# Altium footprint library 39303032.PcbLib: 1 footprints
Each footprint in its own frame and in the unit in brackets; x right, y up, seen from the top. Pads: shape width x height; smd on the part's side, far side on the other; paste and mask are expansions set on the pad; w line width, h text height; cw(c..) or ccw(c..) is an arc to the next point about the centre after c.
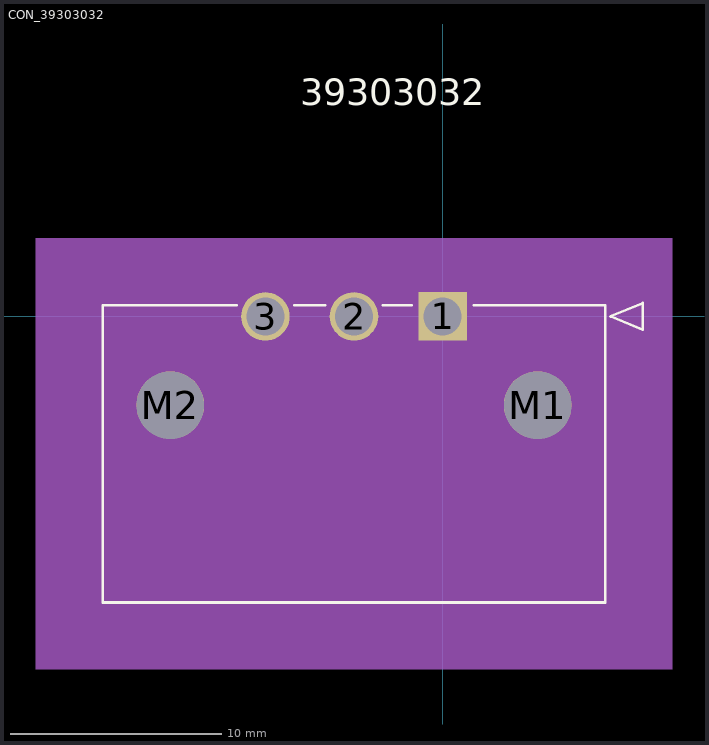
[diagram p0: the footprint, top view; thin cyan lines are the x and y axes]

## CON_39303032 [mm]
pads (5):
  rect 2.3x2.3 hole 1.8 mask+0.076: 1(0,0)
  round 2.3 hole 1.8 mask+0.076: 2(-4.2,0) 3(-8.4,0)
  round 3.2 hole 3.2 unplated mask+0.076: M1(4.5,-4.2) M2(-12.9,-4.2)
Top Overlay:
  lines w0.127: -9.769,0.535 -16.1,0.535 -16.1,-13.55 7.7,-13.55 7.7,0.535 1.47,0.535 ; -7.031,0.535 -5.569,0.535 ; -2.831,0.535 -1.47,0.535 ; 7.954,0 9.478,0.635 9.478,-0.635 7.954,0
  text "39303032" at -6.74,10.003 h1.27
Mechanical 3:
  text "PTH_DRILL_SIZE:_1.8_MM,_TOL:_+0.05/-0.05" at -16.9,-20.477 h1.27
  text "NPTH_DRILL_SIZE:_3.2_MM,_TOL:_+0.05/-0.05" at -17.217,-23.017 h1.27
Mechanical 5:
  region: -19.275,3.71 10.875,3.71 10.875,-16.725 -19.275,-16.725
Mechanical 10:
  text "PTH_DRILL_SIZE:_1.8_MM,_TOL:_+0.05/-0.05" at -16.9,-20.477 h1.27
  text "NPTH_DRILL_SIZE:_3.2_MM,_TOL:_+0.05/-0.05" at -17.217,-23.017 h1.27
Mechanical 13:
  lines w0.127: -16.1,-13.55 7.7,-13.55 7.7,0.535 -16.1,0.535 -16.1,-13.55 ; 7.954,0 9.478,0.635 9.478,-0.635 7.954,0
  text "39303032" at -6.74,10.003 h1.27
Mechanical 15:
  region: 8.97,1.805 -17.37,1.805 -17.37,-14.82 8.97,-14.82
  lines w0.127: -17.37,-14.82 -17.37,1.805 8.97,1.805 8.97,-14.82 -17.37,-14.82
3D body: height 0.25, standoff 0, extent 0,0 0.254,0.254